# Altium schematic symbol library SGM4863-20.A.1.Schlib: 1 symbol
Pins are listed as number, name and electrical type; pins without a type are passive.

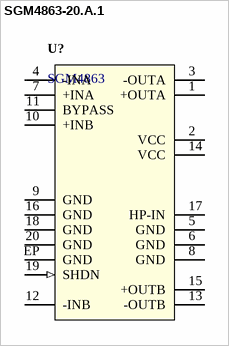
[diagram p0: symbol SGM4863-20.A.1]

## SGM4863-20.A.1
designator U?, comment SGM4863
pins: 1 +OUTA, 2 VCC (power), 3 -OUTA, 4 -INA, 5 GND (power), 6 GND (power), 7 +INA, 8 GND (power), 9 GND (power), 10 +INB, 11 BYPASS, 12 -INB, 13 -OUTB, 14 VCC (power), 15 +OUTB, 16 GND (power), 17 HP-IN, 18 GND (power), 19 SHDN (in), 20 GND (power), EP GND (power)